# Altium footprint library 2520[1008].PcbLib: 2 footprints
Each footprint in its own frame and in the unit in brackets; x right, y up, seen from the top. Pads: shape width x height; smd on the part's side, far side on the other; paste and mask are expansions set on the pad; w line width, h text height; cw(c..) or ccw(c..) is an arc to the next point about the centre after c.
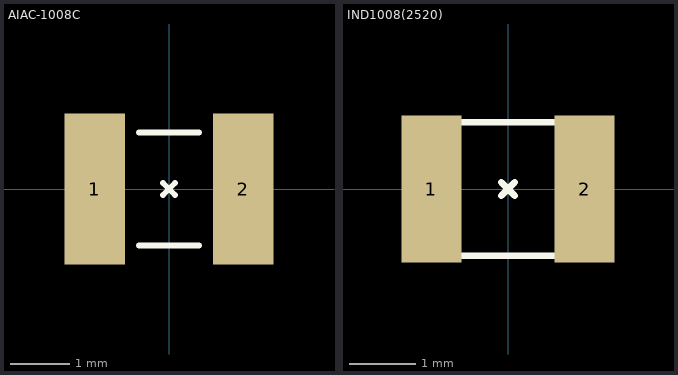
[diagram p0: the footprints below, top view; thin cyan lines are the x and y axes]

## AIAC-1008C [mm]
height 2.1
pads (2):
  rect 1.02x2.54 smd: 1(-1.245,0) 2(1.245,0)
Top Overlay:
  lines w0.1: -0.5,-0.95 0.5,-0.95 ; -0.5,0.95 0.5,0.95 ; -0.1,-0.1 0.1,0.1 ; -0.1,0.1 0.1,-0.1
3D body: height 2.1, standoff 0, extent -1.425,-0.9 1.425,0.9

## IND1008(2520) [mm]
height 1.6
pads (2):
  rect 0.9x2.2 smd: 1(-1.15,0) 2(1.15,0)
Top Overlay:
  lines w0.1: -0.1,-0.1 0.1,0.1 ; -0.1,0.1 0.1,-0.1 ; -1.25,-1 -1.25,1 1.25,1 1.25,-1 -1.25,-1
3D body "INDM2520X190N.step": height 1.8, standoff 0, extent -1.25,-1 1.25,1